# EAGLE library part 749020111A (library WE-LAN)
WE-LAN LAN Transformer Characteristics Suitable for industrial temperatures from –40 °C up to +125 °C Different version available from 1.5 kV isolation to 6 kV. HPLE version Additional CMC for higher attenuation Non PoE, PoE and PoE++ up to 2 A PoE up to 150 W and speeds up to 1 Gbit/s Available in SMT Compliant with standards: IEEE 802.3u, IEEE 802.3ab, IEEE 802.3af, IEEE 802.3at and IEEE 802.3bt UL Recognized Applications Compatible to Industrial Ethernet systems like EtherCAT or Profinet Compliant with most IC’s for Ethernet applications such as Microchip, Texas Instruments, Broadcom, Linear Technology Router, switches, sensors, robotics, automation, IP cameras, IoT applications Details see: www.we-online.com/en/components/products/WE-LAN Updated by Ella Wu 2024-03-21 2024 (C) Würth Elektronik
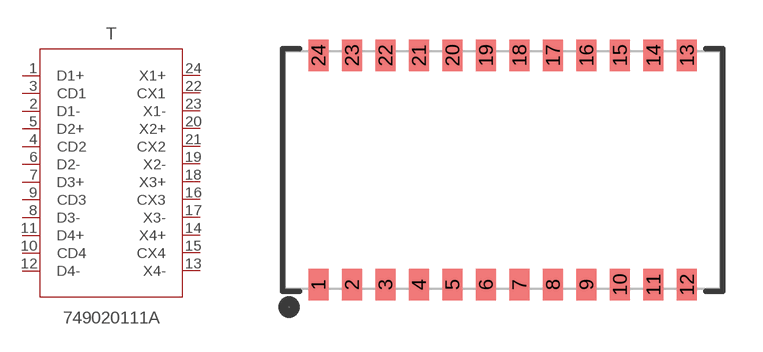
[diagram p7: symbol with the pads of 749020111A; footprint 749020111A]

Designator prefix T

## 749020111A (DATA-RATE: 1000 Base-T; DATASHEET: https://www.we-online.com/redexpert/spec/749020111A?ae; HPLE: No; IMPROVED-CMRR: No; L: 350 uH; MOUNT: SMT; OPERATING-TEMPERATURE: 0 °C up to +70 °C; PART-NUMBER: 749020111A; POE: non-PoE; PORTS: 1; VALUE: 749020111A; VT: 1500 V (RMS))  [749020111A]
1  D1+  pas
2  D1-  pas
3  CD1  pas
4  CD2  pas
5  D2+  pas
6  D2-  pas
7  D3+  pas
8  D3-  pas
9  CD3  pas
10  CD4  pas
11  D4+  pas
12  D4-  pas
13  X4-  pas
14  X4+  pas
15  CX4  pas
16  CX3  pas
17  X3-  pas
18  X3+  pas
19  X2-  pas
20  X2+  pas
21  CX2  pas
22  CX1  pas
23  X1-  pas
24  X1+  pas

## Footprint 749020111A (pad centres in mm)
WE-LAN LAN Transformer 1000 Base-T, 1Port, SMT
smd 0.76 x 1.2: 1 -6.985,-4.35; 2 -5.715,-4.35; 3 -4.445,-4.35; 4 -3.175,-4.35; 5 -1.905,-4.35; 6 -0.635,-4.35; 7 0.635,-4.35; 8 1.905,-4.35; 9 3.175,-4.35; 10 4.445,-4.35; 11 5.715,-4.35; 12 6.985,-4.35; 13 6.985,4.35; 14 5.715,4.35; 15 4.445,4.35; 16 3.175,4.35; 17 1.905,4.35; 18 0.635,4.35; 19 -0.635,4.35; 20 -1.905,4.35; 21 -3.175,4.35; 22 -4.445,4.35; 23 -5.715,4.35; 24 -6.985,4.35